# Altium integrated library HCPL-3120.IntLib: 1 symbol
Pins are listed as number, name and electrical type; pins without a type are passive.

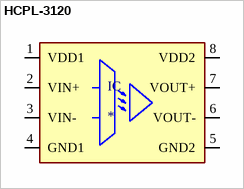
[diagram p0: symbol HCPL-3120]

## HCPL-3120
designator IC
2.5A Gate Driver Optical Coupling 3750Vrms 1 Channel 8-DIP; MF: Broadcom Limited; SnapEDA_Link: https://www.snapeda.com/parts/HCPL-3120/Broadcom%20Limited/view-part/4218888/?ref=snap; Availability: Unavailable; MP: HCPL-3120; Price: None; Value: *; Package: DIP-8 Broadcom / Avago
footprint DIL08
pins: 1 VDD1 (power), 2 VIN+ (power), 3 VIN- (power), 4 GND1 (power), 5 GND2 (power), 6 VOUT- (power), 7 VOUT+ (power), 8 VDD2 (power)